# EAGLE library part ZXSC440 (library iStivi - ICs)
ZXSC440 Photoflash charger
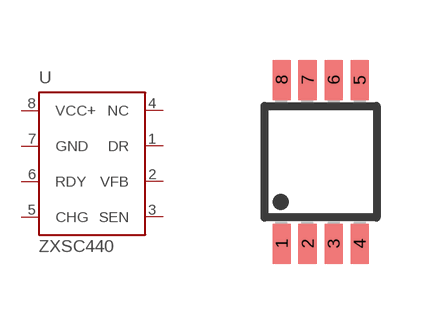
[diagram p9: symbol with the pads of MSOP8; footprint MSOP8]

Designator prefix -

## ZXSC440  [MSOP8]
1  DR  out
2  VFB  in
3  SEN  in
4  NC  nc
5  CHG  out
6  RDY  out
7  GND  pwr
8  VCC+  pwr

## Footprint MSOP8 (pad centres in mm)
Micro Small Outline Package
smd 0.45 x 1: 1 -0.975,-2.05; 2 -0.325,-2.05; 3 0.325,-2.05; 4 0.975,-2.05; 5 0.975,2.05; 6 0.325,2.05; 7 -0.325,2.05; 8 -0.975,2.05